# Altium footprint library PCIe.PcbLib: 2 footprints
Each footprint in its own frame and in the unit in brackets; x right, y up, seen from the top. Pads: shape width x height; smd on the part's side, far side on the other; paste and mask are expansions set on the pad; w line width, h text height; cw(c..) or ccw(c..) is an arc to the next point about the centre after c.
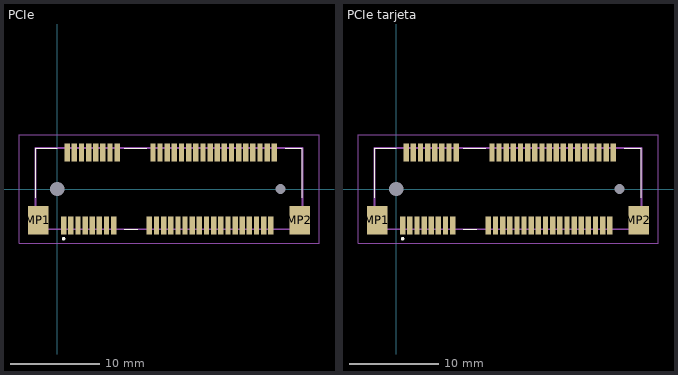
[diagram p0: the footprints below, top view; thin cyan lines are the x and y axes]

## PCIe [mm]
pads (56):
  rect 0.6x2 smd: 1(0.7,-4.1) 2(1.1,4.1) 3(1.5,-4.1) 4(1.9,4.1) 5(2.3,-4.1) 6(2.7,4.1) 7(3.1,-4.1) 8(3.5,4.1) 9(3.9,-4.1) 10(4.3,4.1) 11(4.7,-4.1) 12(5.1,4.1) 13(5.5,-4.1) 14(5.9,4.1) 15(6.3,-4.1) 16(6.7,4.1) 17(10.3,-4.1) 18(10.7,4.1) 19(11.1,-4.1) 20(11.5,4.1) 21(11.9,-4.1) 22(12.3,4.1) 23(12.7,-4.1) 24(13.1,4.1) 25(13.5,-4.1) 26(13.9,4.1) 27(14.3,-4.1) 28(14.7,4.1) 29(15.1,-4.1) 30(15.5,4.1) 31(15.9,-4.1) 32(16.3,4.1) 33(16.7,-4.1) 34(17.1,4.1) 35(17.5,-4.1) 36(17.9,4.1) 37(18.3,-4.1) 38(18.7,4.1) 39(19.1,-4.1) 40(19.5,4.1) 41(19.9,-4.1) 42(20.3,4.1) 43(20.7,-4.1) 44(21.1,4.1) 45(21.5,-4.1) 46(21.9,4.1) 47(22.3,-4.1) 48(22.7,4.1) 49(23.1,-4.1) 50(23.5,4.1) 51(23.9,-4.1) 52(24.3,4.1)
  round 0.825 hole 1.6 unplated: MH1(0,0)
  round 0.575 hole 1.1 unplated: MH2(25,0)
  rect 2.3x3.2 smd: MP1(-2.15,-3.5) MP2(27.15,-3.5)
Top Overlay:
  lines w0.1: -2.45,-0.965 -2.45,4.58 0,4.58 ; 7.5,-4.51 9,-4.51 ; 7.5,4.58 10,4.58 ; 25.5,4.58 27.45,4.58 27.45,-0.965
  lines w0.2: 0.7,-5.665 ccw(c0.7,-5.565) 0.7,-5.465 ccw(c0.7,-5.565) 0.7,-5.665
Mechanical 13:
  lines w0.2: -2.45,-4.51 -2.45,4.58 27.45,4.58 27.45,-4.51 -2.45,-4.51
Mechanical 15:
  lines w0.1: -4.3,-6.1 -4.3,6.1 29.3,6.1 29.3,-6.1 -4.3,-6.1
3D body "socket_PCIe2.STEP": height 4.1, standoff -0.55, extent -2.774,-4.377 27.9,4.577

## PCIe tarjeta [mm]
pads (56):
  rect 0.6x2 smd: 1(0.7,-4.1) 2(1.1,4.1) 3(1.5,-4.1) 4(1.9,4.1) 5(2.3,-4.1) 6(2.7,4.1) 7(3.1,-4.1) 8(3.5,4.1) 9(3.9,-4.1) 10(4.3,4.1) 11(4.7,-4.1) 12(5.1,4.1) 13(5.5,-4.1) 14(5.9,4.1) 15(6.3,-4.1) 16(6.7,4.1) 17(10.3,-4.1) 18(10.7,4.1) 19(11.1,-4.1) 20(11.5,4.1) 21(11.9,-4.1) 22(12.3,4.1) 23(12.7,-4.1) 24(13.1,4.1) 25(13.5,-4.1) 26(13.9,4.1) 27(14.3,-4.1) 28(14.7,4.1) 29(15.1,-4.1) 30(15.5,4.1) 31(15.9,-4.1) 32(16.3,4.1) 33(16.7,-4.1) 34(17.1,4.1) 35(17.5,-4.1) 36(17.9,4.1) 37(18.3,-4.1) 38(18.7,4.1) 39(19.1,-4.1) 40(19.5,4.1) 41(19.9,-4.1) 42(20.3,4.1) 43(20.7,-4.1) 44(21.1,4.1) 45(21.5,-4.1) 46(21.9,4.1) 47(22.3,-4.1) 48(22.7,4.1) 49(23.1,-4.1) 50(23.5,4.1) 51(23.9,-4.1) 52(24.3,4.1)
  round 0.825 hole 1.6 unplated: MH1(0,0)
  round 0.575 hole 1.1 unplated: MH2(25,0)
  rect 2.3x3.2 smd: MP1(-2.15,-3.5) MP2(27.15,-3.5)
Top Overlay:
  lines w0.1: -2.45,-0.965 -2.45,4.58 0,4.58 ; 7.5,-4.51 9,-4.51 ; 7.5,4.58 10,4.58 ; 25.5,4.58 27.45,4.58 27.45,-0.965
  lines w0.2: 0.7,-5.665 ccw(c0.7,-5.565) 0.7,-5.465 ccw(c0.7,-5.565) 0.7,-5.665
Mechanical 13:
  lines w0.2: -2.45,-4.51 -2.45,4.58 27.45,4.58 27.45,-4.51 -2.45,-4.51
Mechanical 15:
  lines w0.1: -4.3,-6.1 -4.3,6.1 29.3,6.1 29.3,-6.1 -4.3,-6.1
3D body "PCIe_SIM7000.step": height 5.23, standoff 0.54, extent -2.54,-0.6 27.54,50.2
3D body "socket_PCIe2.STEP": height 4.1, standoff -0.55, extent -2.774,-4.377 27.9,4.577